# Altium footprint library EISI.PcbLib: 695 footprints (part 31 of 44)
Each footprint in its own frame and in the unit in brackets; x right, y up, seen from the top. Pads: shape width x height; smd on the part's side, far side on the other; paste and mask are expansions set on the pad; w line width, h text height; cw(c..) or ccw(c..) is an arc to the next point about the centre after c.
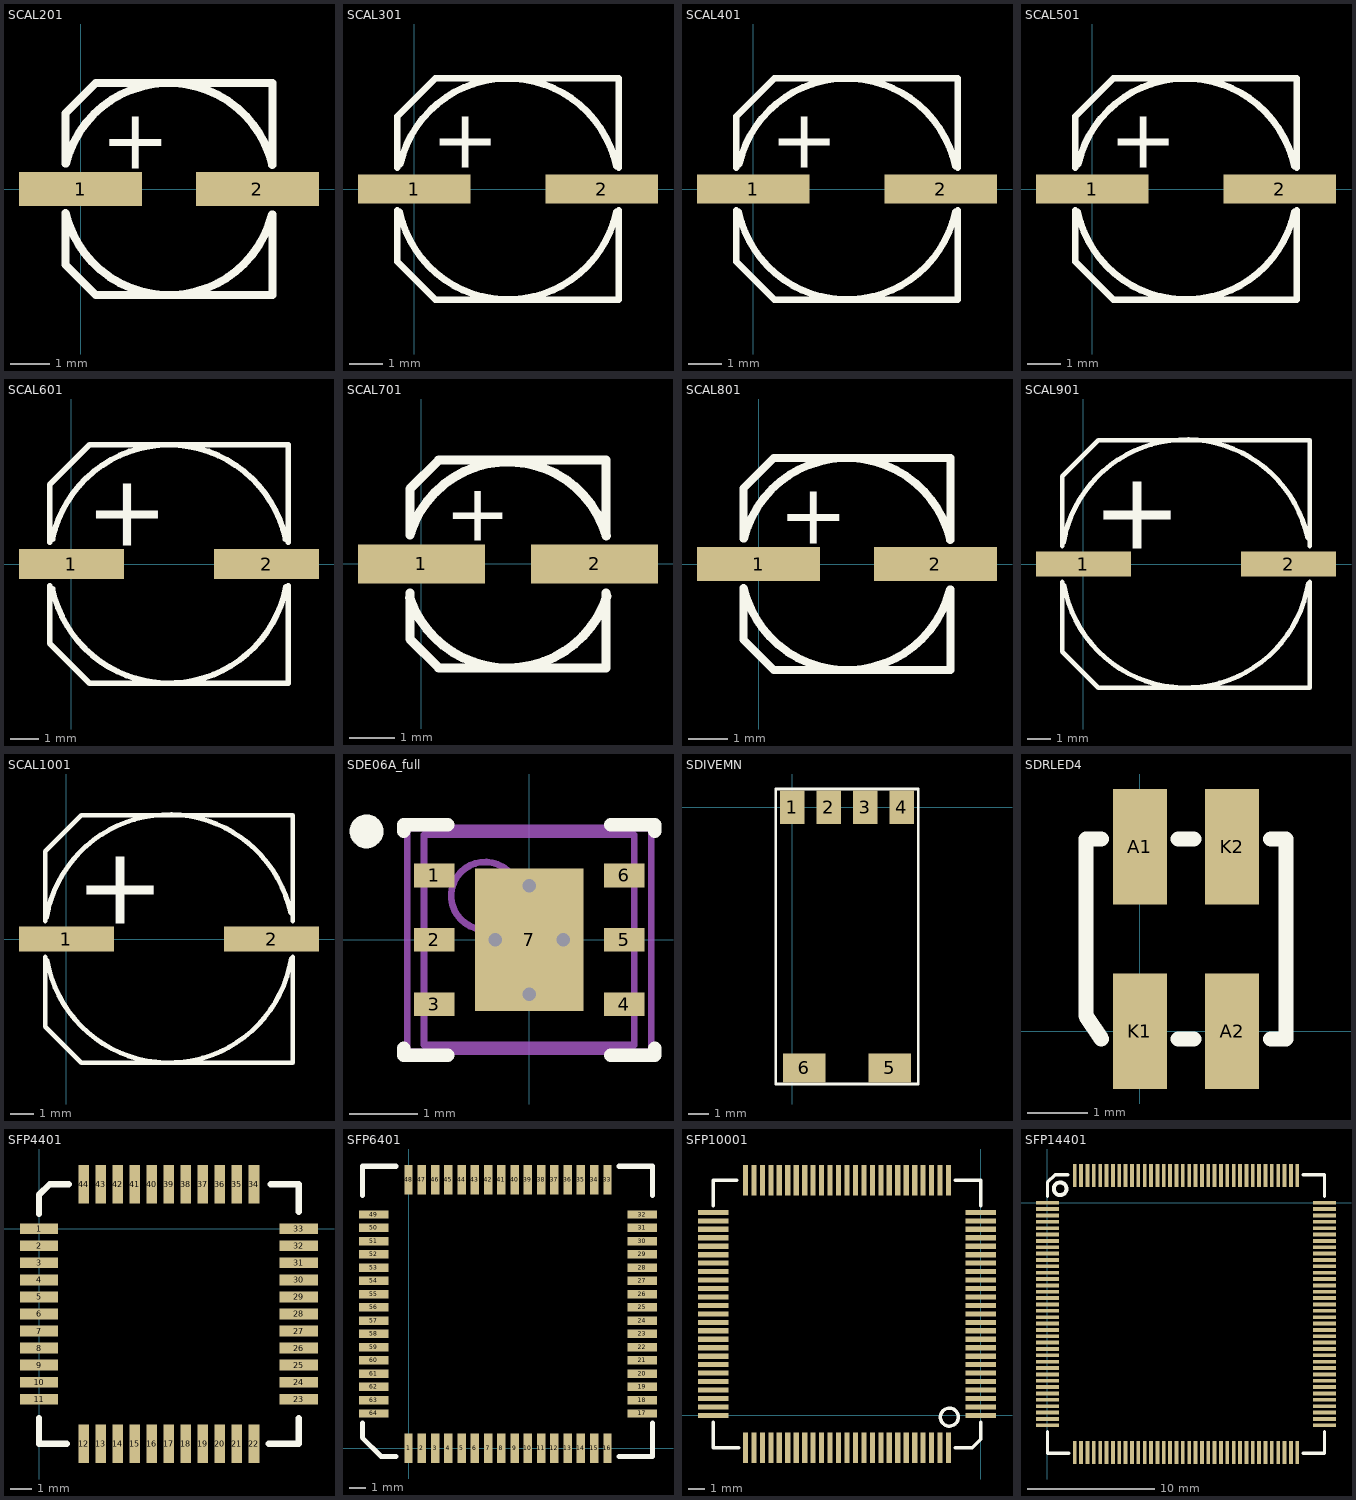
[diagram p30: the footprints below, top view; thin cyan lines are the x and y axes]

## SCAL201 [mil]
pads (2):
  rect 122x34 smd: 1(0,0) 2(175,0)
TopOverlay:
  lines w7.87: -15,-25 -15,-75 15,-105 190,-105 190,-25 ; -15,25 -15,75 15,105 190,105 190,25
  lines w8: -14.86,-23.62 ccw(c87.45,0) 189.33,-25.4 ; -14.43,25.4 cw(c87.45,0) 189.76,23.62
  text "+" at 20,20 h60

## SCAL301 [mil]
pads (2):
  rect 132x34 smd: 1(0,0) 2(220,0)
TopOverlay:
  lines w7.87: -20,-25 -20,-85 25,-130 240,-130 240,-25 ; -20,25 -20,85 25,130 240,130 240,25
  lines w8: -16.97,-26.99 ccw(c110,0) 236.97,-26.99 ; -16.48,29.2 cw(c110,0) 236.97,26.99
  text "+" at 20,25 h70

## SCAL401 [mil]
pads (2):
  rect 132x34 smd: 1(0,0) 2(220,0)
TopOverlay:
  lines w7.87: -20,-25 -20,-85 25,-130 240,-130 240,-25 ; -20,25 -20,85 25,130 240,130 240,25
  lines w8: -16.97,-26.99 ccw(c110,0) 236.97,-26.99 ; -16.48,29.2 cw(c110,0) 236.97,26.99
  text "+" at 20,25 h70

## SCAL501 [mil]
pads (2):
  rect 132x34 smd: 1(0,0) 2(220,0)
TopOverlay:
  lines w7.87: -20,-25 -20,-85 25,-130 240,-130 240,-25 ; -20,25 -20,85 25,130 240,130 240,25
  lines w8: -16.97,-26.99 ccw(c110,0) 236.97,-26.99 ; -16.48,29.2 cw(c110,0) 236.97,26.99
  text "+" at 20,25 h70

## SCAL601 [mil]
pads (2):
  rect 145x41 smd: 1(0,0) 2(270,0)
TopOverlay:
  lines w7.87: -30,-30 -30,-110 25,-165 300,-165 300,-30 ; -30,30 -30,110 25,165 300,165 300,30
  lines w8: -26.32,-34.29 ccw(c135,0) 296.89,-31.47 ; -26.32,34.29 cw(c135,0) 296.32,34.29
  text "+" at 20,25 h100

## SCAL701 [mil]
pads (2):
  rect 110x34 smd: 1(0,0) 2(150,0)
TopOverlay:
  lines w7.87: -10,-25 -10,-65 15,-90 160,-90 160,-25 ; -10,25 -10,65 15,90 160,90 160,25
  lines w8: -10.23,-29.35 ccw(c75,0) 160.73,-27.85 ; -9.26,27.38 cw(c75,0) 160.17,24.42
  text "+" at 20,20 h50

## SCAL801 [mil]
pads (2):
  rect 122x34 smd: 1(0,0) 2(175,0)
TopOverlay:
  lines w7.87: -15,-25 -15,-75 15,-105 190,-105 190,-25 ; -15,25 -15,75 15,105 190,105 190,25
  lines w8: -14.86,-23.62 ccw(c87.45,0) 189.33,-25.4 ; -14.43,25.4 cw(c87.45,0) 189.76,23.62
  text "+" at 20,20 h60

## SCAL901 [mil]
pads (2):
  rect 157x41 smd: 1(0,0) 2(340,0)
TopOverlay:
  lines w7.87: -35,-30 -35,-145 25,-205 375,-205 375,-30 ; -35,30 -35,145 25,205 375,205 375,30
  lines w8: -33.02,35.8 cw(c170,0) 371.65,42.86 ; -31.89,-35.6 ccw(c170,0) 372.48,-32.07
  text "+" at 15,25 h130

## SCAL1001 [mil]
pads (2):
  rect 157x41 smd: 1(0,0) 2(340,0)
TopOverlay:
  lines w7.87: -35,-30 -35,-145 25,-205 375,-205 375,-30 ; -35,30 -35,145 25,205 375,205 375,30
  lines w8: -33.02,35.8 cw(c170,0) 371.65,42.86 ; -31.89,-35.6 ccw(c170,0) 372.48,-32.07
  text "+" at 15,25 h130

## SDE06A_full [mm] "SON, 6-Leads, Body 3x3 mm, Pitch 0.95mm, Full Paste, NSC Recommended"
height 0.8
pads (7):
  rect 0.6x0.35 smd paste-0.175 mask+0.051: 1(-1.4,0.95) 2(-1.4,0) 3(-1.4,-0.95) 4(1.4,-0.95) 5(1.4,0) 6(1.4,0.95)
  rect 1.6x2.1 smd paste-0.8 mask+0.051: 7(0,0)
via 0,-0.8 diameter 0.5 hole 0.2
via 0.5,0 diameter 0.5 hole 0.2
via 0,0.8 diameter 0.5 hole 0.2
via -0.5,0 diameter 0.5 hole 0.2
TopOverlay:
  circle w0.25: c-2.4,1.6 r0.125
  lines w0.2: -1.85,-1.6 -1.85,-1.7 -1.2,-1.7 ; -1.85,1.6 -1.85,1.7 -1.2,1.7 ; 1.2,-1.7 1.85,-1.7 1.85,-1.6 ; 1.2,1.7 1.85,1.7 1.85,1.6
TopPaste:
  rectangle: -0.76,-1 0.76,1
  region: 1.9,1.125 1.2,1.125 1.2,0.775 1.9,0.775
  region: 1.9,0.175 1.2,0.175 1.2,-0.175 1.9,-0.175
  region: 1.9,-0.775 1.2,-0.775 1.2,-1.125 1.9,-1.125
  rectangle: -1.9,-1.125 -1.2,-0.775
  rectangle: -1.9,-0.175 -1.2,0.175
  rectangle: -1.9,0.775 -1.2,1.125
Mechanical13:
  circle w0.1: c-0.65,0.65 r0.5
  lines w0.1: -1.55,-1.55 1.55,-1.55 1.55,1.55 -1.55,1.55 -1.55,-1.55
Mechanical15:
  lines w0.1: -0.5,0 0.5,0 ; 0,-0.5 0,0.5 ; -1.8,-1.65 -1.8,1.65 1.8,1.65 1.8,-1.65 -1.8,-1.65
3D body: height 0.8, standoff 0, extent -1.55,-1.55 1.55,1.55

## SDIVEMN [mil]
pads (12):
  rect 47x63 smd: 1(0,0) 2(68.9,0) 3(137.8,0) 4(206.69,0)
  rect 80x55 smd: 5(184.06,-492.13) 6(22.64,-492.13)
  round 33 on Top Solder: ""(0,-7.87) ""(68.9,-7.87) ""(137.8,-7.87) ""(206.69,-7.87)
  round 40 on Top Solder: ""(22.64,-492.13) ""(184.06,-492.13)
TopOverlay:
  lines w5: -31.5,-522.64 238.19,-522.64 238.19,34.45 -31.5,34.45 -31.5,-522.64

## SDRLED4 [mil]
pads (8):
  rect 35x75 smd: A1(0,120) A2(60,0) K1(0,0) K2(60,120)
  rect 35x63 on Top Paste: ""(0,-6) ""(0,126) ""(60,-6) ""(60,126)
TopOverlay:
  lines w10: -25,-5 -35,10 -35,125 -25,125 ; 25,-5 35,-5 ; 25,125 35,125 ; 85,-5 95,-5 95,125 85,125

## SFP4401 [mm]
pads (44):
  rect 1.8x0.5 smd: 1(0,0) 2(0,-0.8) 3(0,-1.6) 4(0,-2.4) 5(0,-3.2) 6(0,-4) 7(0,-4.8) 8(0,-5.6) 9(0,-6.4) 10(0,-7.2) 11(0,-8) 23(12.2,-8) 24(12.2,-7.2) 25(12.2,-6.4) 26(12.2,-5.6) 27(12.2,-4.8) 28(12.2,-4) 29(12.2,-3.2) 30(12.2,-2.4) 31(12.2,-1.6) 32(12.2,-0.8) 33(12.2,0)
  rect 0.5x1.8 smd: 12(2.1,-10.1) 13(2.9,-10.1) 14(3.7,-10.1) 15(4.5,-10.1) 16(5.3,-10.1) 17(6.1,-10.1) 18(6.9,-10.1) 19(7.7,-10.1) 20(8.5,-10.1) 21(9.3,-10.1) 22(10.1,-10.1) 34(10.1,2.1) 35(9.3,2.1) 36(8.5,2.1) 37(7.7,2.1) 38(6.9,2.1) 39(6.1,2.1) 40(5.3,2.1) 41(4.5,2.1) 42(3.7,2.1) 43(2.9,2.1) 44(2.1,2.1)
TopOverlay:
  lines w0.305: 0,-8.9 0,-10.1 1.3,-10.1 ; 0,0.7 0,1.6 0.5,2.1 1.4,2.1 ; 10.8,-10.1 12.2,-10.1 12.2,-8.9 ; 10.9,2.1 12.2,2.1 12.2,0.8
TopSolder:
  rectangle: 11.252,-8.306 13.157,0.305
  rectangle: 1.778,-11.049 10.389,-9.144
  rectangle: -0.94,-8.306 0.94,0.305
  rectangle: 1.803,1.143 10.389,3.048

## SFP6401 [mm]
pads (64):
  rect 0.5x1.8 smd: 1(0,0) 2(0.8,0) 3(1.6,0) 4(2.4,0) 5(3.2,0) 6(4,0) 7(4.8,0) 8(5.6,0) 9(6.4,0) 10(7.2,0) 11(8,0) 12(8.8,0) 13(9.6,0) 14(10.4,0) 15(11.2,0) 16(12,0) 33(12,16.2) 34(11.2,16.2) 35(10.4,16.2) 36(9.6,16.2) 37(8.8,16.2) 38(8,16.2) 39(7.2,16.2) 40(6.4,16.2) 41(5.6,16.2) 42(4.8,16.2) 43(4,16.2) 44(3.2,16.2) 45(2.4,16.2) 46(1.6,16.2) 47(0.8,16.2) 48(0,16.2)
  rect 1.8x0.5 smd: 17(14.1,2.1) 18(14.1,2.9) 19(14.1,3.7) 20(14.1,4.5) 21(14.1,5.3) 22(14.1,6.1) 23(14.1,6.9) 24(14.1,7.7) 25(14.1,8.5) 26(14.1,9.3) 27(14.1,10.1) 28(14.1,10.9) 29(14.1,11.7) 30(14.1,12.5) 31(14.1,13.3) 32(14.1,14.1) 49(-2.1,14.1) 50(-2.1,13.3) 51(-2.1,12.5) 52(-2.1,11.7) 53(-2.1,10.9) 54(-2.1,10.1) 55(-2.1,9.3) 56(-2.1,8.5) 57(-2.1,7.7) 58(-2.1,6.9) 59(-2.1,6.1) 60(-2.1,5.3) 61(-2.1,4.5) 62(-2.1,3.7) 63(-2.1,2.9) 64(-2.1,2.1)
TopOverlay:
  lines w0.305: -2.794,1.524 -2.794,0.635 -1.651,-0.508 -0.762,-0.508 ; -2.794,15.24 -2.794,17.018 -0.762,17.018 ; 12.7,-0.508 14.732,-0.508 14.732,1.524 ; 12.7,17.018 14.732,17.018 14.732,15.24
TopSolder:
  rectangle: 13.145,1.8 15.05,14.4
  rectangle: -0.305,-0.955 12.305,0.95
  rectangle: -3.05,1.795 -1.145,14.405
  rectangle: -0.305,15.25 12.3,17.155

## SFP10001 [mil]
pads (100):
  rect 71x12 smd: 1(0,0) 2(0,19.68) 3(0,39.37) 4(0,59.06) 5(0,78.74) 6(0,98.43) 7(0,118.11) 8(0,137.8) 9(0,157.48) 10(0,177.17) 11(0,196.85) 12(0,216.54) 13(0,236.22) 14(0,255.91) 15(0,275.59) 16(0,295.28) 17(0,314.96) 18(0,334.65) 19(0,354.33) 20(0,374.02) 21(0,393.7) 22(0,413.39) 23(0,433.07) 24(0,452.76) 25(0,472.44) 51(-622.05,472.44) 52(-622.05,452.76) 53(-622.05,433.07) 54(-622.05,413.39) 55(-622.05,393.7) 56(-622.05,374.02) 57(-622.05,354.33) 58(-622.05,334.65) 59(-622.05,314.96) 60(-622.05,295.28) 61(-622.05,275.59) 62(-622.05,255.91) 63(-622.05,236.22) 64(-622.05,216.53) 65(-622.05,196.85) 66(-622.05,177.17) 67(-622.05,157.48) 68(-622.05,137.8) 69(-622.05,118.11) 70(-622.05,98.43) 71(-622.05,78.74) 72(-622.05,59.06) 73(-622.05,39.37) 74(-622.05,19.68) 75(-622.05,0)
  rect 12x71 smd: 26(-74.8,547.24) 27(-94.49,547.24) 28(-114.17,547.24) 29(-133.86,547.24) 30(-153.54,547.24) 31(-173.23,547.24) 32(-192.91,547.24) 33(-212.6,547.24) 34(-232.28,547.24) 35(-251.97,547.24) 36(-271.65,547.24) 37(-291.34,547.24) 38(-311.02,547.24) 39(-330.71,547.24) 40(-350.39,547.24) 41(-370.08,547.24) 42(-389.76,547.24) 43(-409.45,547.24) 44(-429.13,547.24) 45(-448.82,547.24) 46(-468.5,547.24) 47(-488.19,547.24) 48(-507.87,547.24) 49(-527.56,547.24) 50(-547.24,547.24) 76(-547.24,-74.8) 77(-527.56,-74.8) 78(-507.87,-74.8) 79(-488.19,-74.8) 80(-468.5,-74.8) 81(-448.82,-74.8) 82(-429.13,-74.8) 83(-409.45,-74.8) 84(-389.76,-74.8) 85(-370.08,-74.8) 86(-350.39,-74.8) 87(-330.71,-74.8) 88(-311.02,-74.8) 89(-291.34,-74.8) 90(-271.65,-74.8) 91(-251.97,-74.8) 92(-232.28,-74.8) 93(-212.6,-74.8) 94(-192.91,-74.8) 95(-173.23,-74.8) 96(-153.54,-74.8) 97(-133.86,-74.8) 98(-114.17,-74.8) 99(-94.49,-74.8) 100(-74.8,-74.8)
TopOverlay:
  circle w8: c-72.83,-3.94 r20.93
  lines w7.87: -622.05,-15.75 -622.05,-74.8 -562.99,-74.8 ; -622.05,488.19 -622.05,547.24 -566.93,547.24 ; -59.06,-74.8 -19.68,-74.8 0,-55.12 0,-15.75 ; -59.06,547.24 0,547.24 0,488.19
TopSolder:
  rectangle: -38,-8 38,481
  rectangle: -555,-113 -66,-37
  rectangle: -660,-8 -584,481
  rectangle: -556,509 -67,585

## SFP14401 [mm]
pads (144):
  rect 1.8x0.3 smd: 1(0,0) 2(0,-0.5) 3(0,-1) 4(0,-1.5) 5(0,-2) 6(0,-2.5) 7(0,-3) 8(0,-3.5) 9(0,-4) 10(0,-4.5) 11(0,-5) 12(0,-5.5) 13(0,-6) 14(0,-6.5) 15(0,-7) 16(0,-7.5) 17(0,-8) 18(0,-8.5) 19(0,-9) 20(0,-9.5) 21(0,-10) 22(0,-10.5) 23(0,-11) 24(0,-11.5) 25(0,-12) 26(0,-12.5) 27(0,-13) 28(0,-13.5) 29(0,-14) 30(0,-14.5) 31(0,-15) 32(0,-15.5) 33(0,-16) 34(0,-16.5) 35(0,-17) 36(0,-17.5) 73(21.8,-17.5) 74(21.8,-17) 75(21.8,-16.5) 76(21.8,-16) 77(21.8,-15.5) 78(21.8,-15) 79(21.8,-14.5) 80(21.8,-14) 81(21.8,-13.5) 82(21.8,-13) 83(21.8,-12.5) 84(21.8,-12) 85(21.8,-11.5) 86(21.8,-11) 87(21.8,-10.5) 88(21.8,-10) 89(21.8,-9.5) 90(21.8,-9) 91(21.8,-8.5) 92(21.8,-8) 93(21.8,-7.5) 94(21.8,-7) 95(21.8,-6.5) 96(21.8,-6) 97(21.8,-5.5) 98(21.8,-5) 99(21.8,-4.5) 100(21.8,-4) 101(21.8,-3.5) 102(21.8,-3) 103(21.8,-2.5) 104(21.8,-2) 105(21.8,-1.5) 106(21.8,-1) 107(21.8,-0.5) 108(21.8,0)
  rect 0.3x1.8 smd: 37(2.15,-19.65) 38(2.65,-19.65) 39(3.15,-19.65) 40(3.65,-19.65) 41(4.15,-19.65) 42(4.65,-19.65) 43(5.15,-19.65) 44(5.65,-19.65) 45(6.15,-19.65) 46(6.65,-19.65) 47(7.15,-19.65) 48(7.65,-19.65) 49(8.15,-19.65) 50(8.65,-19.65) 51(9.15,-19.65) 52(9.65,-19.65) 53(10.15,-19.65) 54(10.65,-19.65) 55(11.15,-19.65) 56(11.65,-19.65) 57(12.15,-19.65) 58(12.65,-19.65) 59(13.15,-19.65) 60(13.65,-19.65) 61(14.15,-19.65) 62(14.65,-19.65) 63(15.15,-19.65) 64(15.65,-19.65) 65(16.15,-19.65) 66(16.65,-19.65) 67(17.15,-19.65) 68(17.65,-19.65) 69(18.15,-19.65) 70(18.65,-19.65) 71(19.15,-19.65) 72(19.65,-19.65) 109(19.65,2.15) 110(19.15,2.15) 111(18.65,2.15) 112(18.15,2.15) 113(17.65,2.15) 114(17.15,2.15) 115(16.65,2.15) 116(16.15,2.15) 117(15.65,2.15) 118(15.15,2.15) 119(14.65,2.15) 120(14.15,2.15) 121(13.65,2.15) 122(13.15,2.15) 123(12.65,2.15) 124(12.15,2.15) 125(11.65,2.15) 126(11.15,2.15) 127(10.65,2.15) 128(10.15,2.15) 129(9.65,2.15) 130(9.15,2.15) 131(8.65,2.15) 132(8.15,2.15) 133(7.65,2.15) 134(7.15,2.15) 135(6.65,2.15) 136(6.15,2.15) 137(5.65,2.15) 138(5.15,2.15) 139(4.65,2.15) 140(4.15,2.15) 141(3.65,2.15) 142(3.15,2.15) 143(2.65,2.15) 144(2.15,2.15)
TopOverlay:
  circle w0.305: c1,1.1 r0.5
  lines w0.254: 0,-18 0,-19.7 1.7,-19.7 ; 0,0.5 0,1.6 0.6,2.2 1.6,2.2 ; 20.1,-19.7 21.8,-19.7 21.8,-18 ; 20.1,2.2 21.8,2.2 21.8,0.5
TopSolder:
  lines w0.254: -0.825,-0.178 -0.825,-17.577 0.831,-17.577 0.831,0.076 ; -0.616,-17.374 -0.616,-0.178 ; -0.413,-17.374 -0.413,0.051 ; -0.235,-17.399 -0.235,-0.102 ; -0.058,-17.399 -0.058,-0.102 ; 0.146,-17.45 0.146,-0.127 ; 0.374,-17.424 0.374,-0.127 ; 0.552,-17.424 0.552,-0.127 ; 0.654,-17.374 0.654,0.076 ; 2.083,-20.474 19.609,-20.474 ; 2.083,-18.821 19.71,-18.821 ; 2.108,1.326 19.634,1.326 ; 2.108,2.979 19.735,2.979 ; 2.184,-18.999 19.202,-18.999 ; 2.209,2.801 19.227,2.801 ; 2.235,-19.202 19.101,-19.202 ; 2.26,2.598 19.126,2.598 ; 2.286,-19.431 19.431,-19.431 ; 2.311,2.369 19.456,2.369 ; 2.337,-20.041 19.533,-20.041 ; 2.337,-19.66 19.304,-19.66 ; 2.362,-19.837 19.507,-19.837 ; 2.362,1.759 19.558,1.759 ; 2.362,2.14 19.329,2.14 ; 2.388,-20.244 19.583,-20.244 ; 2.387,1.963 19.532,1.963 ; 2.413,1.556 19.608,1.556 ; 19.38,-19.71 19.38,-18.923 ; 19.405,2.09 19.405,2.877 ; 20.975,-0.178 20.975,-17.577 22.631,-17.577 22.631,0.076 ; 21.184,-17.374 21.184,-0.178 ; 21.387,-17.374 21.387,0.051 ; 21.565,-17.399 21.565,-0.102 ; 21.742,-17.399 21.742,-0.102 ; 21.946,-17.45 21.946,-0.127 ; 22.174,-17.424 22.174,-0.127 ; 22.352,-17.424 22.352,-0.127 ; 22.454,-17.374 22.454,0.076